# Altium integrated library operational_amplifiers.IntLib: 7 symbols
Pins are listed as number, name and electrical type; pins without a type are passive.

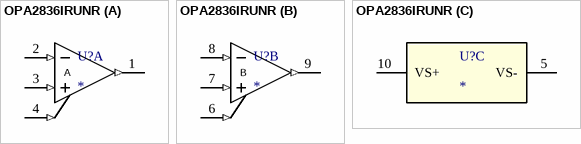
[diagram p0: symbol OPA2836IRUNR]

## OPA2836IRUNR
designator U?
Dual, Very Low Power, Rail to Rail out, Negative Rail in, VFB Op Amp, 205MHz BW, 120 MHz GBW; Manufacturer: Texas Instruments; PartNumber: OPA2836IRUNR; RefDes: RefDes; Type: DEV; Value: Value; Copyright: Copyright (C) 2018 Accelerated Designs. All rights reserved; ComponentLink1Description: Product Page; ComponentLink1URL: https://www.ti.com/product/OPA2836
footprint RUN0010A
part A pins: 1 VOUT1 (out), 2 IN- (in), 3 IN+ (in), 4 PD1_N (in)
part B pins: 6 PD2_N (in), 7 IN+ (in), 8 IN- (in), 9 VOUT2 (out)
part C pins: 5 VS- (power), 10 VS+ (power)
part A text: A
part B text: B


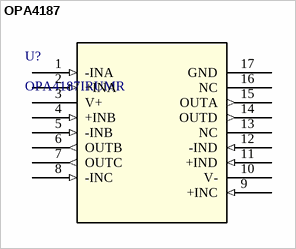
[diagram p1: symbol OPA4187]

## OPA4187
designator U?, comment OPA4187IRUMR
Zero-drift (10µV, 0.001µV/C˚), MUX-friendly, low-noise, RRO, CMOS quad precision op amp (quad); Vendor: Texas Instruments; Built_By: EMA_Cory; SourceLibrary: Add_to_database_2020-10-30; Datasheet: https://www.ti.com/lit/ds/symlink/opa4187.pdf?ts=1604082514403&ref_url=https%253A%252F%252Fwww.ti.com%252Fstore%252Fti%252Fen%252Fp%252Fproduct%252F%253Fp%253DOPA4187IRUMR; Manufacturer_Part_Number: OPA4187IRUMR; Copyright: Copyright (C) 2018 Accelerated Designs. All rights reserved; RefDes: RefDes; Type: DEV; ComponentLink1Description: Product Page; ComponentLink1URL: https://www.ti.com/product/OPA4187
footprint RUM16_TEX
pins: 1 -INA (in), 2 +INA (in), 3 V+ (power), 4 +INB (in), 5 -INB (in), 6 OUTB (out), 7 OUTC (out), 8 -INC (in), 9 +INC (in), 10 V- (power), 11 +IND (in), 12 -IND (in), 13 NC, 14 OUTD (out), 15 OUTA (out), 16 NC, 17 GND


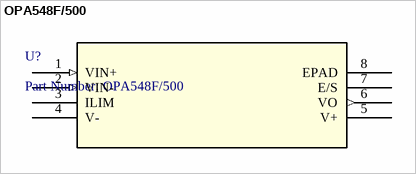
[diagram p2: symbol OPA548F/500]

## OPA548F/500
designator U?, comment Part Number: OPA548F/500
High-Voltage, High-Current, Wide-Output-Voltage-Swing Power Operational Amplifier; Manufacturer: Texas Instruments; Built_By: EMA_UL_Team; Vendor: Texas Instruments; Manufacturer_Part_Number: OPA548F/500; Copyright: Copyright (C) 2018 Accelerated Designs. All rights reserved; RefDes: RefDes; Type: DEV; Value: Value
footprint KTW7
footprint KTW7-L
footprint KTW7-M
pins: 1 VIN+ (in), 2 VIN- (in), 3 ILIM, 4 V- (power), 5 V+ (power), 6 VO (out), 7 E/S, 8 EPAD


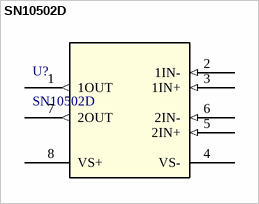
[diagram p3: symbol SN10502D]

## SN10502D
designator U?
Low-Distortion High-Speed Rail-to-Rail Output Operational Amplifiers; Manufacturer: Texas Instruments; INDUSTRY_STD_PKG_TYPE: SOIC; FAMILY_NAME: VOLTAGE FEEDBACK; PIN_COUNT: 8; PACKAGE_DESIGNATOR: D; Datasheet_URL: http://www.ti.com/lit/gpn/SN10502; GENERIC_PART_NUMBER: SN10502; Vendor: Texas Instruments; Manufacturer_Part_Number: SN10502D; Copyright: Copyright (C) 2018 Accelerated Designs. All rights reserved; RefDes: RefDes; Type: DEV
footprint D8
pins: 1 1OUT (out), 2 1IN- (in), 3 1IN+ (in), 4 VS- (power), 5 2IN+ (in), 6 2IN- (in), 7 2OUT (out), 8 VS+ (power)


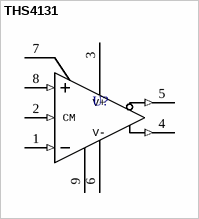
[diagram p4: symbol THS4131]

## THS4131
designator U?, comment THS4131CDGN  (value not drawn)
Fully Differential Input/Output Low Noise Amplifier; PartNumber: THS4131CDGNR; Manufacturer: Texas Instruments; CompType: IC; PIN_COUNT: 9; Alternate_PartNumber: THS4131CDGN; PackageReference: DGN0008D; MountType: SMT; RoHS: Y; RefDes: RefDes; Type: DEV; Value: Value; Copyright: Copyright (C) 2018 Accelerated Designs. All rights reserved; ComponentLink1Description: Product Page; ComponentLink1URL: https://www.ti.com/product/THS4131
footprint DGN0008D_N
pins: 1 VIN- (in), 2 VOCM (in), 3 VCC+ (power), 4 VOUT+ (out), 5 VOUT- (out), 6 VCC- (power), 7 NC, 8 VIN+ (in), 9 PAD (power)
text: V+; CM; V-


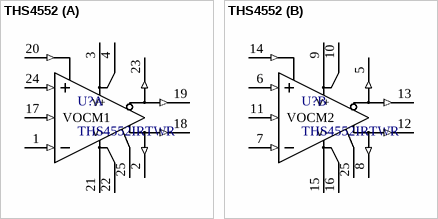
[diagram p5: symbol THS4552]

## THS4552
designator U?, comment THS4552IRTWR
Dual Channel, Low-Noise, Precision, 150-MHz, Fully Differential Amplifier; Manufacturer: Texas Instruments; PartNumber: THS4552IRTWR; RefDes: RefDes; Type: DEV; Value: Value; Copyright: Copyright (C) 2018 Accelerated Designs. All rights reserved; ComponentLink1Description: Product Page; ComponentLink1URL: https://www.ti.com/product/THS4552
footprint RTW0024A
part A pins: 1 -IN1 (in), 2 +FB1 (out), 3 +VS1 (power), 4 +VS1 (power), 17 VOCM1 (in), 18 +OUT1 (out), 19 -OUT1 (out), 20 DISABLE1_N (in), 21 -VS1 (power), 22 -VS1 (power), 23 -FB1 (out), 24 +IN1 (in), 25 EP (power)
part B pins: 5 -FB2 (out), 6 +IN2 (in), 7 -IN2 (in), 8 +FB2 (out), 9 +VS2 (power), 10 +VS2 (power), 11 VOCM2 (in), 12 +OUT2 (out), 13 -OUT2 (out), 14 DISABLE2_N (in), 15 -VS2 (power), 16 -VS2 (power), 25 EP (power)
part A text: V+; V-
part B text: V+; V-


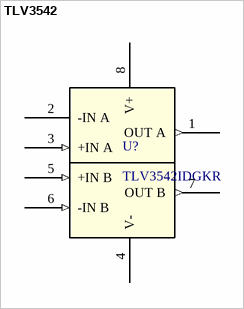
[diagram p6: symbol TLV3542]

## TLV3542
designator U?, comment TLV3542IDGKR
Dual , 200MHz, RRIO, CMOS Operational Amplifier; Vendor: Texas Instruments; Built_By: EMA_Molly; SourceLibrary: TI_2019-05-11; Manufacturer_Part_Number: TLV3542IDGKR; Copyright: Copyright (C) 2018 Accelerated Designs. All rights reserved; RefDes: RefDes; Type: DEV; ComponentLink1Description: Product Page; ComponentLink1URL: https://www.ti.com/product/TLV3542
footprint DGK8_TEX
footprint DGK8_TEX-L
footprint DGK8_TEX-M
pins: 1 OUT A (out), 2 -IN A, 3 +IN A (in), 4 V- (power), 5 +IN B (in), 6 -IN B (in), 7 OUT B (out), 8 V+ (power)